# Altium schematic symbol library bjt-smd.SchLib: 4 symbols
Pins are listed as number, name and electrical type; pins without a type are passive.

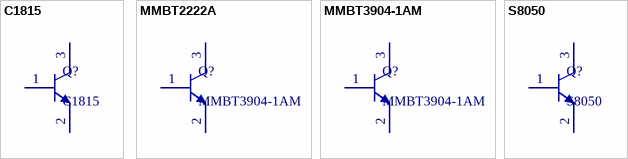
[diagram p0: symbols C1815 to S8050]

## C1815
designator Q?
footprint QTO-92 (TO-92)
footprint SOT23_NEX
pins: 1 B, 2 E, 3 C

## MMBT2222A
designator Q?, comment MMBT3904-1AM
footprint SOT23_NEX
pins: 1 B, 2 E, 3 C

## MMBT3904-1AM
designator Q?
Local Supplier: thegioiic; Local Supplier Link: https://www.thegioiic.com/products/mmbt3904-1am; Local Supplier Part Number: *
footprint SOT23_NEX
pins: 1 B, 2 E, 3 C

## S8050
designator Q?
Local Supplier: thegioiic; Local Supplier Part Number: *; Local Supplier Link: https://www.thegioiic.com/products/mmss8050-h-tp
footprint SOT23_NEX
pins: 1 B, 2 E, 3 C